# EAGLE library part ADS7042 (library texas1)
ADS7042 Ultra-Low Power, Ultra-Small Size, 12-Bit, 1-MSPS, SAR ADC Soure: Data sheet <http://www.ti.com/lit/ds/symlink/ads7042.pdf>
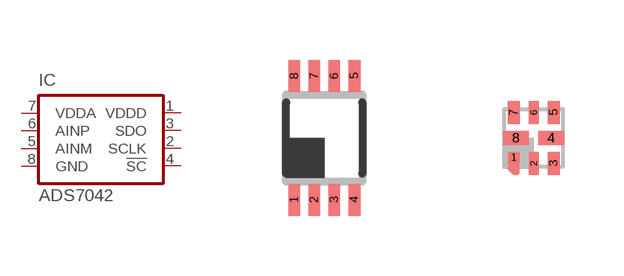
[diagram p125: symbol with the pads of DCU_(R-PDSO-G8); footprints DCU_(R-PDSO-G8), RUG_(R-PQFP-N8)]

Designator prefix IC

## ADS7042DCU  [DCU_(R-PDSO-G8)]
1  VDDD  pwr
2  SCLK  in
3  SDO
4  !SC  in
5  AINM  in
6  AINP  in
7  VDDA  pwr
8  GND  pwr

## ADS7042RUG  [RUG_(R-PQFP-N8)]
1  !SC  in
2  SDO
3  SCLK  in
4  VDDD  pwr
5  GND  pwr
6  VDDA  pwr
7  AINP  in
8  AINM  in

## Footprint DCU_(R-PDSO-G8) (pad centres in mm)
DCU (R-PDSO-G8) PLASTIC SMALL OUTLINE PACKAGE (DIE DOWN) Soure: Data sheet <http://www.ti.com/lit/ds/symlink/ads7042.pdf>
smd 0.3 x 0.8: 1 -0.75,-1.55; 2 -0.25,-1.55; 3 0.25,-1.55; 4 0.75,-1.55; 5 0.75,1.55; 6 0.25,1.55; 7 -0.25,1.55; 8 -0.75,1.55

## Footprint RUG_(R-PQFP-N8) (pad centres in mm)
RUG (S-PQFP-N8) PLASTIC QUAD FLATPACK
smd 0.3 x 0.28: 1 -0.5,-0.487
smd 0.25 x 0.58: 2 0,-0.637; 6 0,0.637
smd 0.3 x 0.58: 3 0.5,-0.637; 5 0.5,0.637; 7 -0.5,0.637
smd 0.63 x 0.35: 4 0.438,0; 8 -0.438,0